# Altium footprint library Juno_Light_Central.PcbLib: 18 footprints (part 1 of 2)
Each footprint in its own frame and in the unit in brackets; x right, y up, seen from the top. Pads: shape width x height; smd on the part's side, far side on the other; paste and mask are expansions set on the pad; w line width, h text height; cw(c..) or ccw(c..) is an arc to the next point about the centre after c.
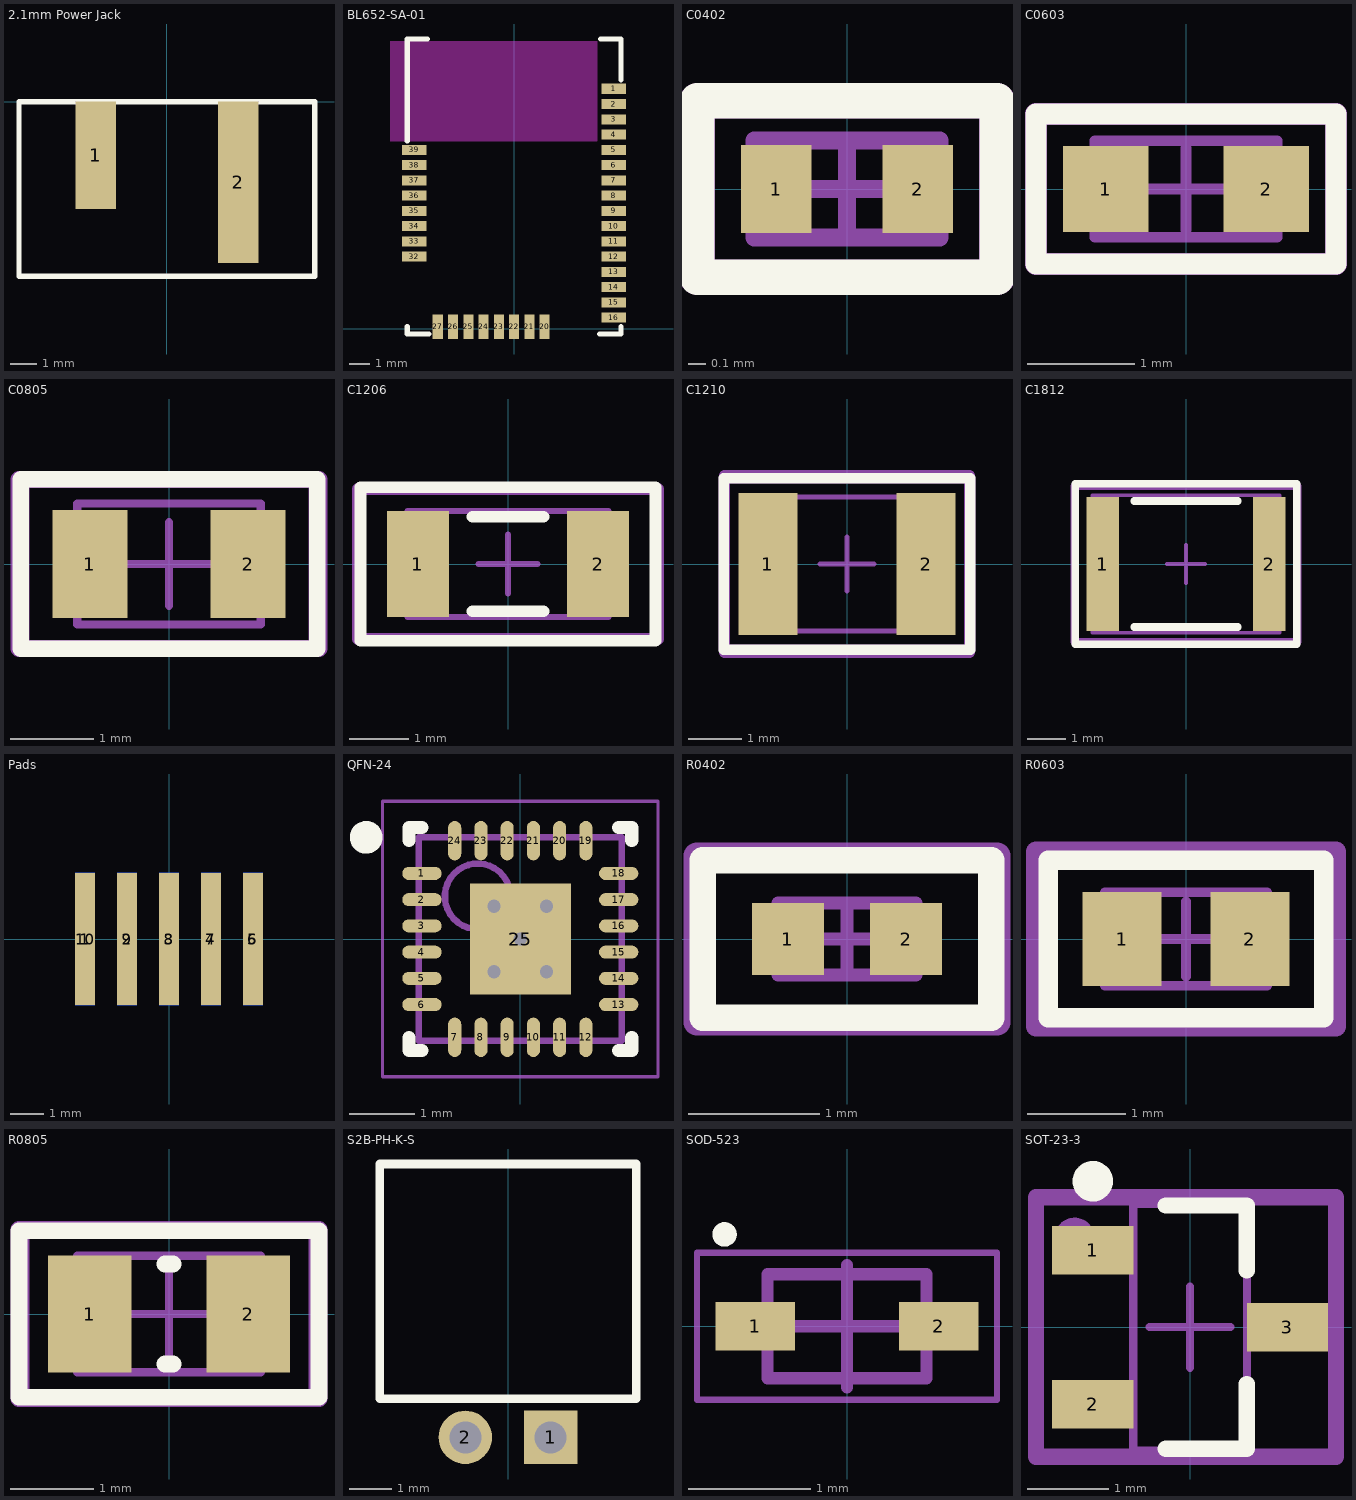
[diagram p0: the footprints below, top view; thin cyan lines are the x and y axes]

## 2.1mm Power Jack [mm]
pads (2):
  rect 1.5x4 smd: 1(-2.65,-2)
  rect 1.5x6 smd: 2(2.65,-3)
Top Overlay:
  lines w0.203: -5.5,-6.5 5.5,-6.5 5.5,0 -5.5,0 -5.5,-6.5
3D body "DJ Jack 2,1mm panel mount.STEP": height 7.55, standoff -5.15, extent -5.5,-5.99 5.5,12.2

## BL652-SA-01 [mm]
pads (32):
  rect 1.2x0.5 smd: 1(4.9,11.8) 2(4.9,11.05) 3(4.9,10.3) 4(4.9,9.55) 5(4.9,8.8) 6(4.9,8.05) 7(4.9,7.3) 8(4.9,6.55) 9(4.9,5.8) 10(4.9,5.05) 11(4.9,4.3) 12(4.9,3.55) 13(4.9,2.8) 14(4.9,2.05) 15(4.9,1.3) 16(4.9,0.55) 32(-4.9,3.55) 33(-4.9,4.3) 34(-4.9,5.05) 35(-4.9,5.8) 36(-4.9,6.55) 37(-4.9,7.3) 38(-4.9,8.05) 39(-4.9,8.8)
  rect 0.5x1.2 smd: 20(1.5,0.1) 21(0.75,0.1) 22(0,0.1) 23(-0.75,0.1) 24(-1.5,0.1) 25(-2.25,0.1) 26(-3,0.1) 27(-3.75,0.1)
Top Overlay:
  lines w0.254: -5.25,0.1 -5.25,-0.25 -4.2,-0.25 ; -5.25,9.25 -5.25,14.25 -4.25,14.25 ; 4.2,-0.25 5.25,-0.25 5.25,0.1 ; 4.25,14.25 5.25,14.25 5.25,12.25
Keep-Out Layer:
  region: 4.1,9.225 -6.1,9.225 -6.1,14.15 4.1,14.15
3D body "satrunner-BL652-SA.STEP": height 2.35, standoff 0, extent -5.008,0 5.008,14.006
3D body: height 2.9, standoff 0, extent 0,0.1 0,0.1

## C0402 [mm] "Chip Capacitor, 2-Leads, Body 1.00x0.50mm, IPC Medium Density"
height 0.55
pads (2):
  rect 0.4x0.5 smd: 1(-0.4,0) 2(0.4,0)
Top Overlay:
  lines w0.2: -0.85,-0.5 -0.85,0.5 0.85,0.5 0.85,-0.5 -0.85,-0.5
Mechanical 12:
  lines w0.1: -0.254,0 0.254,0 ; 0,-0.254 0,0.254
  lines w0.203: -0.85,-0.5 -0.85,0.5 0.85,0.5 0.85,-0.5 -0.85,-0.5
Mechanical 13:
  lines w0.1: -0.525,-0.275 -0.525,0.275 0.525,0.275 0.525,-0.275 -0.525,-0.275
Mechanical 15:
  lines w0.203: -0.85,-0.5 -0.85,0.5 0.85,0.5 0.85,-0.5 -0.85,-0.5
  text ".Designator" at -0.7,-0.2 h0.33
3D body "CAPC1005X06N.step": height 0.55, standoff 0, extent -0.525,-0.275 0.525,0.275

## C0603 [mm] "Chip Capacitor, 2-Leads, Body 1.60x0.80mm, IPC Medium Density"
height 0.9
pads (2):
  rect 0.8x0.8 smd: 1(-0.75,0) 2(0.75,0)
Top Overlay:
  lines w0.2: -1.4,-0.7 1.4,-0.7 1.4,0.7 -1.4,0.7 -1.4,-0.7
Mechanical 12:
  lines w0.1: -0.381,0 0.381,0 ; 0,-0.381 0,0.381
  lines w0.203: -1.4,-0.7 -1.4,0.7 1.4,0.7 1.4,-0.7 -1.4,-0.7
Mechanical 13:
  lines w0.1: -0.85,-0.45 0.85,-0.45 0.85,0.45 -0.85,0.45 -0.85,-0.45
Mechanical 15:
  lines w0.203: -1.4,-0.7 1.4,-0.7 1.4,0.7 -1.4,0.7 -1.4,-0.7
  text ".Designator" at -1.2,-0.4 h0.64
3D body "CAPC1608X09N.step": height 0.9, standoff 0, extent -0.85,-0.45 0.85,0.45

## C0805 [mm] "Chip Capacitor, 2-Leads, Body 2.00x1.25mm, IPC Medium Density"
height 1
pads (2):
  rect 0.9x1.3 smd: 1(-0.95,0) 2(0.95,0)
Top Overlay:
  lines w0.2: -1.778,-1.016 1.778,-1.016 1.778,1.016 -1.778,1.016 -1.778,-1.016
Mechanical 12:
  lines w0.1: -0.5,0 0.5,0 ; 0,-0.5 0,0.5
  lines w0.203: -1.778,-1.016 1.778,-1.016 1.778,1.016 -1.778,1.016 -1.778,-1.016
Mechanical 13:
  lines w0.1: -1.1,-0.725 -1.1,0.725 1.1,0.725 1.1,-0.725 -1.1,-0.725
Mechanical 15:
  lines w0.203: -1.8,-1.016 -1.8,1.016 1.8,1.016 1.8,-1.016 -1.8,-1.016
  text ".Designator" at -1.524,-0.762 h0.89
3D body "CAPC2012X10N.step": height 1, standoff 0, extent -1.1,-0.725 1.1,0.725

## C1206 [mm] "Chip Capacitor, 2-Leads, Body 3.20x1.60mm, IPC Medium Density"
height 1.3
pads (2):
  rect 1.05x1.8 smd: 1(-1.525,0) 2(1.525,0)
Top Overlay:
  lines w0.2: -0.6,-0.8 0.6,-0.8 ; -0.6,0.8 0.6,0.8 ; -2.5,-1.3 2.5,-1.3 2.5,1.3 -2.5,1.3 -2.5,-1.3
Mechanical 12:
  lines w0.1: -0.5,0 0.5,0 ; 0,-0.5 0,0.5
  lines w0.203: -2.54,-1.27 2.54,-1.27 2.54,1.27 -2.54,1.27 -2.54,-1.27
Mechanical 13:
  lines w0.1: -1.7,-0.9 1.7,-0.9 1.7,0.9 -1.7,0.9 -1.7,-0.9
Mechanical 15:
  lines w0.203: -2.54,-1.27 2.54,-1.27 2.54,1.27 -2.54,1.27 -2.54,-1.27
  text ".Designator" at -1.905,-0.635 h1
3D body "CAPC3216X13N.step": height 1.3, standoff 0, extent -1.7,-0.9 1.7,0.9

## C1210 [mm] "Chip Capacitor, 2-Leads, Body 3.20x2.50mm, IPC Medium Density"
height 2.5
pads (2):
  rect 1.1x2.65 smd: 1(-1.475,0) 2(1.475,0)
Top Overlay:
  lines w0.203: -2.3,-1.6 2.3,-1.6 2.3,1.6 -2.3,1.6 -2.3,-1.6
Mechanical 12:
  lines w0.1: -0.5,0 0.5,0 ; 0,-0.5 0,0.5
  lines w0.203: -2.286,-1.651 -2.286,1.651 2.286,1.651 2.286,-1.651 -2.286,-1.651
Mechanical 13:
  lines w0.1: -1.6,-1.25 -1.6,1.25 1.6,1.25 1.6,-1.25 -1.6,-1.25
Mechanical 15:
  lines w0.203: -2.3,-1.6 -2.3,1.6 2.3,1.6 2.3,-1.6 -2.3,-1.6
  text ".Designator" at -2.032,-1.143 h1.02
3D body "CAPC3225X25N.step": height 2.5, standoff 0, extent -1.6,-1.25 1.6,1.25

## C1812 [mm] "Chip Capacitor, 2-Leads, Body 4.50x3.20mm, IPC High Density"
height 3.1
pads (2):
  rect 0.85x3.5 smd: 1(-2.175,0) 2(2.175,0)
Top Overlay:
  lines w0.2: -1.35,-1.65 1.35,-1.65 ; -1.35,1.65 1.35,1.65 ; -2.9,-2.1 -2.9,2.1 2.9,2.1 2.9,-2.1 -2.9,-2.1
Mechanical 12:
  lines w0.1: -0.5,0 0.5,0 ; 0,-0.5 0,0.5
  lines w0.203: -2.921,-2.032 2.921,-2.032 2.921,2.032 -2.921,2.032 -2.921,-2.032
Mechanical 13:
  lines w0.1: -2.45,-1.8 -2.45,1.8 2.45,1.8 2.45,-1.8 -2.45,-1.8
Mechanical 15:
  lines w0.203: -2.921,-2.032 -2.921,2.032 2.921,2.032 2.921,-2.032 -2.921,-2.032
  text ".Designator" at -2.413,-1.524 h1
3D body "CAPC4532X31L.step": height 3.1, standoff 0, extent -2.45,-1.8 2.45,1.8

## Pads [mm]
pads (10):
  rect 0.6x4 smd: 1(-2.54,0) 2(-1.27,0) 3(0,0) 4(1.27,0) 5(2.54,0)
  rect 0.6x4 smd far side: 6(2.54,0) 7(1.27,0) 8(0,0) 9(-1.27,0) 10(-2.54,0)

## QFN-24 [mm] "QFN, 24-Leads, Body 3.00x3.00mm, Pitch 0.40mm, Thermal Pad 1.54x1.70mm, IPC Medium Density"
height 0.9
pads (25):
  oval 0.6x0.2 smd: 1(-1.5,1) 2(-1.5,0.6) 3(-1.5,0.2) 4(-1.5,-0.2) 5(-1.5,-0.6) 6(-1.5,-1) 13(1.5,-1) 14(1.5,-0.6) 15(1.5,-0.2) 16(1.5,0.2) 17(1.5,0.6) 18(1.5,1)
  oval 0.2x0.6 smd: 7(-1,-1.5) 8(-0.6,-1.5) 9(-0.2,-1.5) 10(0.2,-1.5) 11(0.6,-1.5) 12(1,-1.5) 19(1,1.5) 20(0.6,1.5) 21(0.2,1.5) 22(-0.2,1.5) 23(-0.6,1.5) 24(-1,1.5)
  rect 1.54x1.7 smd: 25(0,0)
via 0,0 diameter 0.4 hole 0.2
via 0.4,0.5 diameter 0.4 hole 0.2
via -0.4,-0.5 diameter 0.4 hole 0.2
via 0.4,-0.5 diameter 0.4 hole 0.2
via -0.4,0.5 diameter 0.4 hole 0.2
Top Overlay:
  circle w0.25: c-2.35,1.55 r0.125
  lines w0.2: -1.7,-1.5 -1.7,-1.7 -1.5,-1.7 ; -1.7,1.5 -1.7,1.7 -1.5,1.7 ; 1.5,-1.7 1.7,-1.7 1.7,-1.5 ; 1.5,1.7 1.7,1.7 1.7,1.5
Mechanical 13:
  circle w0.1: c-0.65,0.65 r0.5
  lines w0.1: -1.55,-1.55 1.55,-1.55 1.55,1.55 -1.55,1.55 -1.55,-1.55
Mechanical 15:
  lines w0.05: -2.1,-2.1 2.1,-2.1 2.1,2.1 -2.1,2.1 -2.1,-2.1
  lines w0.1: -0.5,0 0.5,0 ; 0,-0.5 0,0.5
3D body "QFN40P300X300X90_HS-25N.step": height 0.9, standoff 0, extent -1.56,-1.56 1.56,1.56

## R0402 [mm] "Chip Resistor, 2-Leads, Body 1.00x0.50mm, IPC Medium Density"
height 0.4
pads (2):
  rect 0.55x0.55 smd: 1(-0.45,0) 2(0.45,0)
Top Overlay:
  lines w0.2: -1.1,-0.6 1.1,-0.6 1.1,0.6 -1.1,0.6 -1.1,-0.6
Mechanical 12:
  lines w0.1: -0.254,0 0.254,0 ; 0,-0.254 0,0.254
  lines w0.203: -1.143,-0.635 1.143,-0.635 1.143,0.635 -1.143,0.635 -1.143,-0.635
Mechanical 13:
  lines w0.1: -0.525,-0.275 -0.525,0.275 0.525,0.275 0.525,-0.275 -0.525,-0.275
Mechanical 15:
  lines w0.203: -1.143,-0.635 -1.143,0.635 1.143,0.635 1.143,-0.635 -1.143,-0.635
  text ".Designator" at -0.889,-0.381 h0.51
3D body "RESC1005X04N.step": height 0.4, standoff 0, extent -0.525,-0.275 0.525,0.275

## R0603 [mm] "Chip Resistor, 2-Leads, Body 1.57x0.85mm, IPC Medium Density"
height 0.5
pads (2):
  rect 0.8x0.95 smd: 1(-0.65,0) 2(0.65,0)
Top Overlay:
  lines w0.2: -1.4,-0.8 1.4,-0.8 1.4,0.8 -1.4,0.8 -1.4,-0.8
Mechanical 12:
  lines w0.1: -0.381,0 0.381,0 ; 0,-0.381 0,0.381
  lines w0.203: -1.524,-0.889 -1.524,0.889 1.524,0.889 1.524,-0.889 -1.524,-0.889
Mechanical 13:
  lines w0.1: -0.825,-0.475 0.825,-0.475 0.825,0.475 -0.825,0.475 -0.825,-0.475
Mechanical 15:
  lines w0.203: -1.524,-0.889 1.524,-0.889 1.524,0.889 -1.524,0.889 -1.524,-0.889
  text ".Designator" at -1.2,-0.4 h0.64
3D body "RESC1608X05N.step": height 0.5, standoff 0, extent -0.825,-0.475 0.825,0.475

## R0805 [mm] "Chip Resistor, 2-Leads, Body 2.05x1.25mm, IPC Medium Density"
height 0.5
pads (2):
  rect 1x1.4 smd: 1(-0.95,0) 2(0.95,0)
Top Overlay:
  lines w0.2: -0.05,-0.6 0.05,-0.6 ; -0.05,0.6 0.05,0.6 ; -1.8,-1 -1.8,1 1.8,1 1.8,-1 -1.8,-1
Mechanical 12:
  lines w0.1: -0.5,0 0.5,0 ; 0,-0.5 0,0.5
  lines w0.203: -1.778,-1.016 1.778,-1.016 1.778,1.016 -1.778,1.016 -1.778,-1.016
Mechanical 13:
  lines w0.1: -1.1,-0.7 -1.1,0.7 1.1,0.7 1.1,-0.7 -1.1,-0.7
Mechanical 15:
  lines w0.203: -1.8,-1.016 1.8,-1.016 1.8,1.016 -1.8,1.016 -1.8,-1.016
  text ".Designator" at -1.524,-0.762 h0.89
3D body "RESC2112X05N.step": height 0.5, standoff 0, extent -1.1,-0.7 1.1,0.7

## S2B-PH-K-S [mm]
pads (2):
  rect 1.25x1.25 hole 0.75: 1(1,1.35)
  round 1.25 hole 0.75: 2(-1,1.35)
Top Overlay:
  lines w0.203: -3,2.25 -3,7.75 -2.75,7.75 3,7.75 3,2.25 -3,2.25
3D body "S2B-PH-KL.stp": height 4.9, standoff -3.3, extent -2.95,0 2.95,7.6

## SOD-523 [mm] "SODFL, 2-Leads, Body 0.80x1.60mm, IPC Medium Density"
height 0.77
pads (2):
  rect 0.65x0.4 smd: 1(-0.75,0) 2(0.75,0)
Top Overlay:
  circle w0.1: c-1,0.75 r0.05
Mechanical 13:
  lines w0.1: -0.65,-0.425 -0.65,0.425 0.65,0.425 0.65,-0.425 -0.65,-0.425
Mechanical 15:
  lines w0.05: -1.225,-0.6 -1.225,0.6 1.225,0.6 1.225,-0.6 -1.225,-0.6
  lines w0.1: -0.5,0 0.5,0 ; 0,-0.5 0,0.5
3D body "SODFL160X77-2N.step": height 0.77, standoff 0, extent -0.8,-0.425 0.8,0.425

## SOT-23-3 [mm] "SOT23, 3-Leads, Body 2.92x2.37mm, Pitch 0.95mm, IPC Medium Density"
height 1.1
pads (3):
  rect 1x0.6 smd: 1(-1.2,0.95) 2(-1.2,-0.95) 3(1.2,0)
Top Overlay:
  circle w0.25: c-1.2,1.8 r0.125
  lines w0.2: -0.3,-1.5 0.7,-1.5 0.7,-0.7 ; -0.3,1.5 0.7,1.5 0.7,0.7
Mechanical 12:
  lines w0.1: -0.5,0 0.5,0 ; 0,-0.5 0,0.5
  lines w0.203: -1.9,-1.6 1.8,-1.6 1.8,1.6 -1.9,1.6 -1.9,-1.6
Mechanical 13:
  lines w0.1: -0.7,-1.52 0.7,-1.52 0.7,1.52 -0.7,1.52 -0.7,-1.52
Mechanical 15:
  circle w0.25: c-1.425,1.1 r0.125
  lines w0.203: -1.9,-1.6 1.8,-1.6 1.8,1.6 -1.9,1.6 -1.9,-1.6
  text ".Designator" at -1.6,-1.3 h1.02
3D body "SOT95P237X110-3N.step": height 1.1, standoff 0, extent -1.32,-1.52 1.32,1.52